# Altium integrated library Linear Technology PMIC-Switching Reg LTC1174-LTC3901.IntLib: 2647 symbols (part 295 of 310)
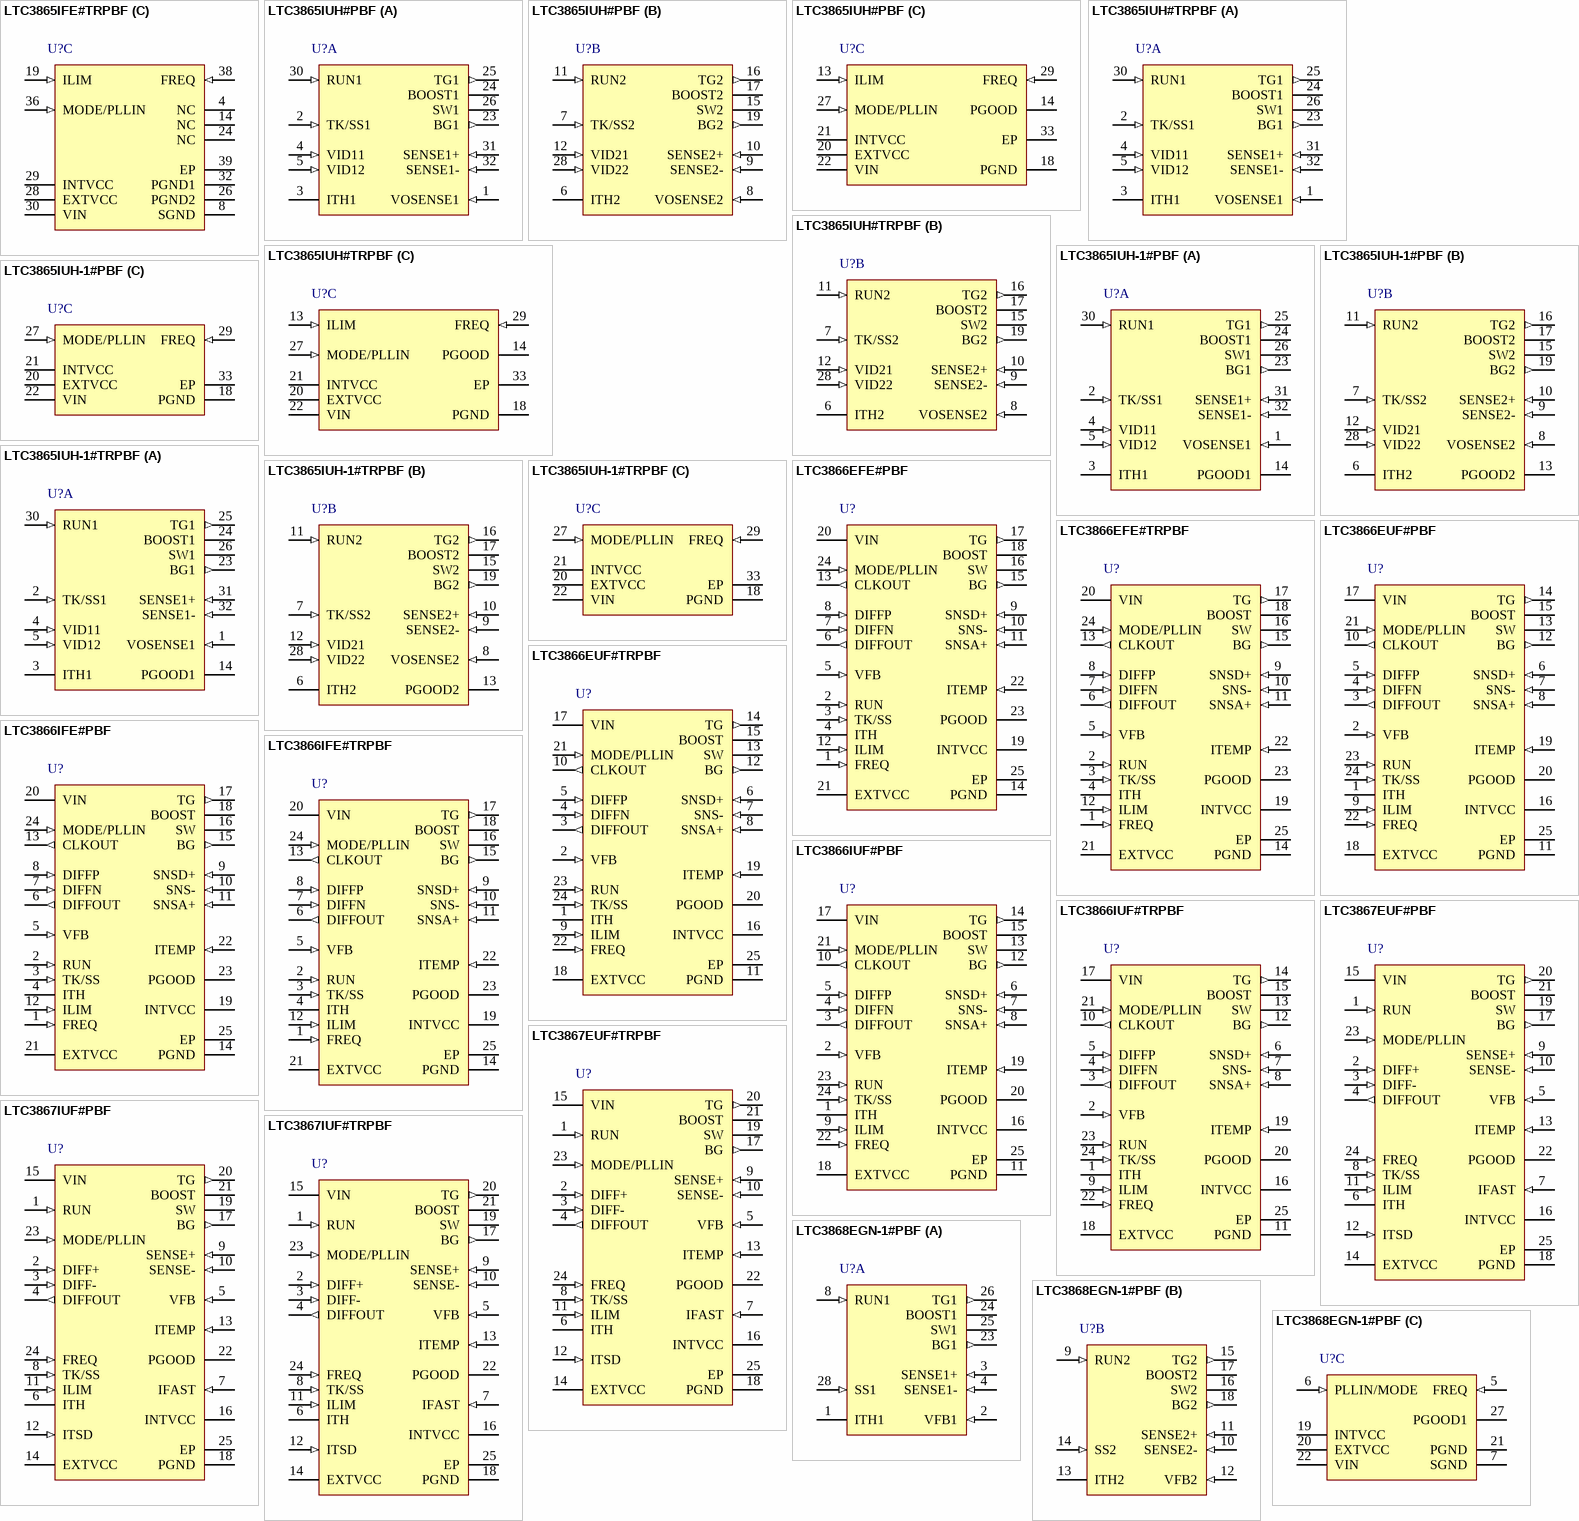
[diagram p295: symbols LTC3865IFE#TRPBF to LTC3868EGN-1#PBF]

## LTC3865IUH-1#PBF
designator U?
Dual, 2-Phase Synchronous DC/DC Controller with Pin Selectable Output, Two PGOOD Outputs and No Adjustable Current Limit, 32-pin QFN (UH-32), -40 to 125 degC, Pb-Free; Manufacturer: Linear Technology; PartNumber: LTC3865IUH-1#PBF; Number of Outputs: 2; PackageReference: UH-32; PackageDescription: 32-Pin Plastic QFN, Body 5 x 5 mm, Pitch 0.5 mm; Supplier 1: Digi-Key; Supplier Part Number 1: LTC3865IUH-1#PBF-ND; RoHS: TRUE; Code_JEDEC: MO-220
footprint LT-UH-32_N (QFN, 32-Leads, Body 5.1x5.1mm, Pitch 0.5mm, Thermal Pad 3.45X3.45mm, IPC Medium Density)
footprint LT-UH-32_L (QFN, 32-Leads, Body 5.1x5.1mm, Pitch 0.5mm, Thermal Pad 3.45X3.45mm, IPC High Density)
footprint LT-UH-32_M (QFN, 32-Leads, Body 5.1x5.1mm, Pitch 0.5mm, Thermal Pad 3.45X3.45mm, IPC Low Density)
part A pins: 1 VOSENSE1 (in) "When the internal programmable resistive divider is used, these pins must be connected to their corresponding outputs. When an external resistive divider is used, these pins are used for error amplifier feedback inputs. They (See Datasheet)", 2 TK/SS1 (in), 3 ITH1 "Current Control Thresholds and Error Amplifier Compensation Points. Each associated channels?current comparator tripping threshold increases with its ITH control voltage.", 4 VID11 (in) "VID Inputs for Output Voltage Programming. Tie these pins to INTVCC, GND or leave them floating to set the output voltages.", 5 VID12 (in) "VID Inputs for Output Voltage Programming. Tie these pins to INTVCC, GND or leave them floating to set the output voltages.", 14 PGOOD1 (oc) "Separate Power Good Indicator Outputs for LTC3865-1 in QFN package and LTC3865 in FE package. Open-drain logic output that is pulled to ground when the corresponding channel output exceeds +/-10% regulation window, after the (See Datasheet)", 23 BG1 (out) "Bottom Gate Driver Outputs. These pins drive the gates of the bottom N-channel MOSFETs between PGND and INTVCC.", 24 BOOST1 "Boosted Floating Driver Supplies. The (+) terminal of the booststrap capacitors connect to these pins. These pins swing from a diode voltage drop below INTVCC up to VIN + INTVCC.", 25 TG1 (out) "Top Gate Driver Outputs. These are the outputs of floating drivers with a voltage swing equal to INTVCC superimposed on the switch nodes voltages.", 26 SW1 "Switch Node Connections to Inductors. Voltage swing at these pins is from a Schottky diode (external) voltage drop below ground to VIN.", 30 RUN1 (in) "Run Control Inputs. A voltage above 1.22V on either pin turns on the IC. However, forcing either of these pins below 1.22V causes the IC to shut down the circuitry required for that particular channel. There are 1uA pull-up (See Datasheet)", 31 SENSE1+ (in) "Current Sense Comparator Inputs. The (+) inputs to the current comparators are normally connected to DCR sensing networks or current sensing resistors.", 32 SENSE1- (in) "Current Sense Comparator Inputs. The (-) inputs to the current comparators are connected to the outputs."
part B pins: 6 ITH2 "Current Control Thresholds and Error Amplifier Compensation Points. Each associated channels?current comparator tripping threshold increases with its ITH control voltage.", 7 TK/SS2 (in), 8 VOSENSE2 (in) "When the internal programmable resistive divider is used, these pins must be connected to their corresponding outputs. When an external resistive divider is used, these pins are used for error amplifier feedback inputs. They (See Datasheet)", 9 SENSE2- (in) "Current Sense Comparator Inputs. The (-) inputs to the current comparators are connected to the outputs.", 10 SENSE2+ (in) "Current Sense Comparator Inputs. The (+) inputs to the current comparators are normally connected to DCR sensing networks or current sensing resistors.", 11 RUN2 (in) "Run Control Inputs. A voltage above 1.22V on either pin turns on the IC. However, forcing either of these pins below 1.22V causes the IC to shut down the circuitry required for that particular channel. There are 1uA pull-up (See Datasheet)", 12 VID21 (in) "VID Inputs for Output Voltage Programming. Tie these pins to INTVCC, GND or leave them floating to set the output voltages.", 13 PGOOD2 (oc) "Separate Power Good Indicator Outputs for LTC3865-1 in QFN package and LTC3865 in FE package. Open-drain logic output that is pulled to ground when the corresponding channel output exceeds +/-10% regulation window, after the (See Datasheet)", 15 SW2 "Switch Node Connections to Inductors. Voltage swing at these pins is from a Schottky diode (external) voltage drop below ground to VIN.", 16 TG2 (out) "Top Gate Driver Outputs. These are the outputs of floating drivers with a voltage swing equal to INTVCC superimposed on the switch nodes voltages.", 17 BOOST2 "Boosted Floating Driver Supplies. The (+) terminal of the booststrap capacitors connect to these pins. These pins swing from a diode voltage drop below INTVCC up to VIN + INTVCC.", 19 BG2 (out) "Bottom Gate Driver Outputs. These pins drive the gates of the bottom N-channel MOSFETs between PGND and INTVCC.", 28 VID22 (in) "VID Inputs for Output Voltage Programming. Tie these pins to INTVCC, GND or leave them floating to set the output voltages."
part C pins: 18 PGND (power) "Power Ground Pin. Connect this pin closely to the sources of the bottom N-channel MOSFETs, the (-) terminal of CVCC and the (-) terminal of CIN.", 20 EXTVCC (power) "External Power Input to an Internal Switch Connected to INTVCC. This switch closes and supplies the IC power, bypassing the internal low dropout regulator, whenever EXTVCC is higher than 4.7V. Do not exceed 6V on this pin.", 21 INTVCC (power) "Internal 5V Regulator Output. The control circuits are powered from this voltage. Decouple this pin to PGND with a minimum of 4.7uF low ESR tantalum or ceramic capacitor.", 22 VIN (power) "Main Input Supply. Decouple this pin to PGND with a capacitor (0.1uF to 1uF).", 27 MODE/PLLIN (in), 29 FREQ (in) "This pin sets the frequency of the internal oscillator. A constant current of 7.5uA is flowing out of this pin and a resistor connected to this pin sets its DC voltage, which in turn, sets the frequency of the internal (See Datasheet)", 33 EP (power) "Pin 33 is the Exposed Pad and available for QFN package."

## LTC3865IUH-1#TRPBF
designator U?
Dual, 2-Phase Synchronous DC/DC Controller with Pin Selectable Output, Two PGOOD Outputs and No Adjustable Current Limit, 32-pin QFN (UH-32), -40 to 125 degC, Pb-Free, Tape and Reel; Manufacturer: Linear Technology; PartNumber: LTC3865IUH-1#TRPBF; Number of Outputs: 2; PackageReference: UH-32; PackageDescription: 32-Pin Plastic QFN, Body 5 x 5 mm, Pitch 0.5 mm; Supplier 1: Digi-Key; Supplier Part Number 1: LTC3865IUH-1#TRPBF-ND; RoHS: TRUE; Code_JEDEC: MO-220
footprint LT-UH-32_N (QFN, 32-Leads, Body 5.1x5.1mm, Pitch 0.5mm, Thermal Pad 3.45X3.45mm, IPC Medium Density)
footprint LT-UH-32_L (QFN, 32-Leads, Body 5.1x5.1mm, Pitch 0.5mm, Thermal Pad 3.45X3.45mm, IPC High Density)
footprint LT-UH-32_M (QFN, 32-Leads, Body 5.1x5.1mm, Pitch 0.5mm, Thermal Pad 3.45X3.45mm, IPC Low Density)
part A pins: 1 VOSENSE1 (in) "When the internal programmable resistive divider is used, these pins must be connected to their corresponding outputs. When an external resistive divider is used, these pins are used for error amplifier feedback inputs. They (See Datasheet)", 2 TK/SS1 (in), 3 ITH1 "Current Control Thresholds and Error Amplifier Compensation Points. Each associated channels?current comparator tripping threshold increases with its ITH control voltage.", 4 VID11 (in) "VID Inputs for Output Voltage Programming. Tie these pins to INTVCC, GND or leave them floating to set the output voltages.", 5 VID12 (in) "VID Inputs for Output Voltage Programming. Tie these pins to INTVCC, GND or leave them floating to set the output voltages.", 14 PGOOD1 (oc) "Separate Power Good Indicator Outputs for LTC3865-1 in QFN package and LTC3865 in FE package. Open-drain logic output that is pulled to ground when the corresponding channel output exceeds +/-10% regulation window, after the (See Datasheet)", 23 BG1 (out) "Bottom Gate Driver Outputs. These pins drive the gates of the bottom N-channel MOSFETs between PGND and INTVCC.", 24 BOOST1 "Boosted Floating Driver Supplies. The (+) terminal of the booststrap capacitors connect to these pins. These pins swing from a diode voltage drop below INTVCC up to VIN + INTVCC.", 25 TG1 (out) "Top Gate Driver Outputs. These are the outputs of floating drivers with a voltage swing equal to INTVCC superimposed on the switch nodes voltages.", 26 SW1 "Switch Node Connections to Inductors. Voltage swing at these pins is from a Schottky diode (external) voltage drop below ground to VIN.", 30 RUN1 (in) "Run Control Inputs. A voltage above 1.22V on either pin turns on the IC. However, forcing either of these pins below 1.22V causes the IC to shut down the circuitry required for that particular channel. There are 1uA pull-up (See Datasheet)", 31 SENSE1+ (in) "Current Sense Comparator Inputs. The (+) inputs to the current comparators are normally connected to DCR sensing networks or current sensing resistors.", 32 SENSE1- (in) "Current Sense Comparator Inputs. The (-) inputs to the current comparators are connected to the outputs."
part B pins: 6 ITH2 "Current Control Thresholds and Error Amplifier Compensation Points. Each associated channels?current comparator tripping threshold increases with its ITH control voltage.", 7 TK/SS2 (in), 8 VOSENSE2 (in) "When the internal programmable resistive divider is used, these pins must be connected to their corresponding outputs. When an external resistive divider is used, these pins are used for error amplifier feedback inputs. They (See Datasheet)", 9 SENSE2- (in) "Current Sense Comparator Inputs. The (-) inputs to the current comparators are connected to the outputs.", 10 SENSE2+ (in) "Current Sense Comparator Inputs. The (+) inputs to the current comparators are normally connected to DCR sensing networks or current sensing resistors.", 11 RUN2 (in) "Run Control Inputs. A voltage above 1.22V on either pin turns on the IC. However, forcing either of these pins below 1.22V causes the IC to shut down the circuitry required for that particular channel. There are 1uA pull-up (See Datasheet)", 12 VID21 (in) "VID Inputs for Output Voltage Programming. Tie these pins to INTVCC, GND or leave them floating to set the output voltages.", 13 PGOOD2 (oc) "Separate Power Good Indicator Outputs for LTC3865-1 in QFN package and LTC3865 in FE package. Open-drain logic output that is pulled to ground when the corresponding channel output exceeds +/-10% regulation window, after the (See Datasheet)", 15 SW2 "Switch Node Connections to Inductors. Voltage swing at these pins is from a Schottky diode (external) voltage drop below ground to VIN.", 16 TG2 (out) "Top Gate Driver Outputs. These are the outputs of floating drivers with a voltage swing equal to INTVCC superimposed on the switch nodes voltages.", 17 BOOST2 "Boosted Floating Driver Supplies. The (+) terminal of the booststrap capacitors connect to these pins. These pins swing from a diode voltage drop below INTVCC up to VIN + INTVCC.", 19 BG2 (out) "Bottom Gate Driver Outputs. These pins drive the gates of the bottom N-channel MOSFETs between PGND and INTVCC.", 28 VID22 (in) "VID Inputs for Output Voltage Programming. Tie these pins to INTVCC, GND or leave them floating to set the output voltages."
part C pins: 18 PGND (power) "Power Ground Pin. Connect this pin closely to the sources of the bottom N-channel MOSFETs, the (-) terminal of CVCC and the (-) terminal of CIN.", 20 EXTVCC (power) "External Power Input to an Internal Switch Connected to INTVCC. This switch closes and supplies the IC power, bypassing the internal low dropout regulator, whenever EXTVCC is higher than 4.7V. Do not exceed 6V on this pin.", 21 INTVCC (power) "Internal 5V Regulator Output. The control circuits are powered from this voltage. Decouple this pin to PGND with a minimum of 4.7uF low ESR tantalum or ceramic capacitor.", 22 VIN (power) "Main Input Supply. Decouple this pin to PGND with a capacitor (0.1uF to 1uF).", 27 MODE/PLLIN (in), 29 FREQ (in) "This pin sets the frequency of the internal oscillator. A constant current of 7.5uA is flowing out of this pin and a resistor connected to this pin sets its DC voltage, which in turn, sets the frequency of the internal (See Datasheet)", 33 EP (power) "Pin 33 is the Exposed Pad and available for QFN package."

## LTC3866EFE#PBF
designator U?
Current Mode Synchronous Controller for Sub Milliohm DCR Sensing, 24-pin SOP (FE-24-EPV-AA), -40 to 125 degC, Pb-Free; Manufacturer: Linear Technology; PartNumber: LTC3866EFE#PBF; Number of Outputs: 1; PackageReference: FE-24; PackageDescription: 24-Pin Plastic TSSOP, Body 7.8 x 4.4 mm, Pitch 0.65 mm; Supplier 1: Digi-Key; Supplier Part Number 1: LTC3866EFE#PBF-ND; RoHS: TRUE
footprint LT-FE-24-EPV-AA_N (SOP, 24-Leads, Body 7.9x4.5mm, Pitch 0.65mm, Thermal Pad 2.74x3.25mm, IPC Medium Density)
footprint LT-FE-24-EPV-AA_L (SOP, 24-Leads, Body 7.9x4.5mm, Pitch 0.65mm, Thermal Pad 2.74x3.25mm, IPC High Density)
footprint LT-FE-24-EPV-AA_M (SOP, 24-Leads, Body 7.9x4.5mm, Pitch 0.65mm, Thermal Pad 2.74x3.25mm, IPC Low Density)
pins: 1 FREQ (in) "Oscillator Frequency Control Input. A 10uA current source flows out of this pin. Connecting a resistor between this pin and ground sets a DC voltage which in turn programs the oscillator frequency. Alternatively, this pin (See Datasheet)", 2 RUN (in) "Run Control Input. A voltage above 1.22V turns on the IC. Pulling this pin below 1.14V causes M198 the IC to shut down. There is a 1uA pull-up current for the pin. Once the RUN pin rises above 1.22V, an additional 4.5uA (See Datasheet)", 3 TK/SS (in) "Output Voltage Tracking and Soft-Start Input. An internal soft-start current of 1.25uA charges the external soft-start capacitor connected to this pin.", 4 ITH "Current Control Threshold and Error Amplifier Compensation Pin. The current comparator tripping threshold is proportional with this voltage.", 5 VFB (in) "Error Amplifier Feedback Input. This pin receives the remotely sensed feedback voltage to set the output voltage through an external resistive divider connected to the DIFFOUT pin or the output.", 6 DIFFOUT (out) "Output of Remote Sensing Differential Amplifier. Connect this pin to VFB through a resistive divider to set the desired output voltage.", 7 DIFFN (in) "Negative Input of Remote Sensing Differential Amplifier. Connect this pin close to the ground of the output load.", 8 DIFFP (in) "Positive Input of Remote Sensing Differential Amplifier. Connect this pin close to the output load.", 9 SNSD+ (in) "First Positive Current Sense Input. This pin is connected to sense the signal of the output inductor’s DCR, it is to be used with a filter that matches the bandwidth, L/DCR, of the inductor.", 10 SNS- (in) "Negative Current Sense Input. This negative input of the current comparator is to be connected to the output.", 11 SNSA+ (in) "Second Positive Current Sense Input. This input is to be connected to sense the signal of the output’s inductor DCR with a filter bandwidth of five times larger than L/DCR.", 12 ILIM (in) "Current Comparator Sense Voltage Limit. Apply a DC voltage to set the maximum current sense threshold for the current comparator.", 13 CLKOUT (out) "Clock Output Pin. The CLKOUT signal is 180degrees out of phase to the rising edge of the IC internal clock.", 14 PGND (power) "Power Ground. Connect to the source of the bottom N-channel MOSFET and the negative terminals of the VIN and INTVCC decoupling capacitors close to this pin.", 15 BG (out) "Bottom Gate Driver Output. This pin drives the gate of the bottom N-channel MOSFET and swings between INTVCC or EXTVCC and PGND.", 16 SW "Switch Node Connection. Connect this pin to the output filter inductor, bottom N-channel MOSFET drain and top N-channel MOSFET source. Voltage swing at these pins is from a Schottky diode (external) voltage drop below ground (See Datasheet)", 17 TG (out) "Top Gate Driver Output. This is a floating driver to be connected to the gate of the top N-channel MOSFET. The voltage swing of this pin equals to INTVCC superimposed over the switch node (SW) voltage.", 18 BOOST "Boosted Top Gate Driver Supply. The (+) terminal of the booststrap capacitor connects to this pin. This pins swings from a diode voltage drop below INTVCC up to VIN + INTVCC.", 19 INTVCC (power) "Internal 5.5V Regulator Output. The internal control circuits are powered from this voltage. Decouple this pin to PGND with a 4.7uF low ESR tantalum or ceramic capacitor.", 20 VIN (power) "Main Input Supply. Decouple this pin to PGND with a capacitor (0.1uF to 1uF). For applications where the main input power is 5V, tie the VIN and INTVCC pins together.", 21 EXTVCC (power) "External Supply Voltage Input. Whenever an external voltage supply greater than 4.7V is connected to this pin, an internal switch will close and bypass the internal low dropout regulator, and the external supply will power (See Datasheet)", 22 ITEMP (in) "Temperature DCR Compensation Input. Connect to a NTC (negative tempco) resistor placed near the output inductor to compensate for its DCR change over temperature. Floating this pin or tying it to INTVCC disables the DCR (See Datasheet)", 23 PGOOD (oc) "Power Good Indicator Output. Open-drain logic out that is pulled to ground when the output exceeds the 10% regulation window, after the internal 20us power bad mask timer expires.", 24 MODE/PLLIN (in) "Mode Operation or External Clock Synchronization. Connect this pin to SGND to set the continuous mode of operation. Connect to INTVCC to enable pulse-skipping mode of operation. Leaving the pin floating will enable Burst (See Datasheet)", 25 EP (power) "Signal Ground. This is the ground of the controller. Connect compensation components and output setting resistors to this ground. The exposed pad must be soldered to the PCB ground plane."

## LTC3866EFE#TRPBF
designator U?
Current Mode Synchronous Controller for Sub Milliohm DCR Sensing, 24-pin SOP (FE-24-EPV-AA), -40 to 125 degC, Pb-Free, Tape and Reel; Manufacturer: Linear Technology; PartNumber: LTC3866EFE#TRPBF; Number of Outputs: 1; PackageReference: FE-24; PackageDescription: 24-Pin Plastic TSSOP, Body 7.8 x 4.4 mm, Pitch 0.65 mm; Supplier 1: Digi-Key; Supplier Part Number 1: LTC3866EFE#TRPBF-ND; RoHS: TRUE
footprint LT-FE-24-EPV-AA_N (SOP, 24-Leads, Body 7.9x4.5mm, Pitch 0.65mm, Thermal Pad 2.74x3.25mm, IPC Medium Density)
footprint LT-FE-24-EPV-AA_L (SOP, 24-Leads, Body 7.9x4.5mm, Pitch 0.65mm, Thermal Pad 2.74x3.25mm, IPC High Density)
footprint LT-FE-24-EPV-AA_M (SOP, 24-Leads, Body 7.9x4.5mm, Pitch 0.65mm, Thermal Pad 2.74x3.25mm, IPC Low Density)
pins: 1 FREQ (in) "Oscillator Frequency Control Input. A 10uA current source flows out of this pin. Connecting a resistor between this pin and ground sets a DC voltage which in turn programs the oscillator frequency. Alternatively, this pin (See Datasheet)", 2 RUN (in) "Run Control Input. A voltage above 1.22V turns on the IC. Pulling this pin below 1.14V causes M198 the IC to shut down. There is a 1uA pull-up current for the pin. Once the RUN pin rises above 1.22V, an additional 4.5uA (See Datasheet)", 3 TK/SS (in) "Output Voltage Tracking and Soft-Start Input. An internal soft-start current of 1.25uA charges the external soft-start capacitor connected to this pin.", 4 ITH "Current Control Threshold and Error Amplifier Compensation Pin. The current comparator tripping threshold is proportional with this voltage.", 5 VFB (in) "Error Amplifier Feedback Input. This pin receives the remotely sensed feedback voltage to set the output voltage through an external resistive divider connected to the DIFFOUT pin or the output.", 6 DIFFOUT (out) "Output of Remote Sensing Differential Amplifier. Connect this pin to VFB through a resistive divider to set the desired output voltage.", 7 DIFFN (in) "Negative Input of Remote Sensing Differential Amplifier. Connect this pin close to the ground of the output load.", 8 DIFFP (in) "Positive Input of Remote Sensing Differential Amplifier. Connect this pin close to the output load.", 9 SNSD+ (in) "First Positive Current Sense Input. This pin is connected to sense the signal of the output inductor’s DCR, it is to be used with a filter that matches the bandwidth, L/DCR, of the inductor.", 10 SNS- (in) "Negative Current Sense Input. This negative input of the current comparator is to be connected to the output.", 11 SNSA+ (in) "Second Positive Current Sense Input. This input is to be connected to sense the signal of the output’s inductor DCR with a filter bandwidth of five times larger than L/DCR.", 12 ILIM (in) "Current Comparator Sense Voltage Limit. Apply a DC voltage to set the maximum current sense threshold for the current comparator.", 13 CLKOUT (out) "Clock Output Pin. The CLKOUT signal is 180degrees out of phase to the rising edge of the IC internal clock.", 14 PGND (power) "Power Ground. Connect to the source of the bottom N-channel MOSFET and the negative terminals of the VIN and INTVCC decoupling capacitors close to this pin.", 15 BG (out) "Bottom Gate Driver Output. This pin drives the gate of the bottom N-channel MOSFET and swings between INTVCC or EXTVCC and PGND.", 16 SW "Switch Node Connection. Connect this pin to the output filter inductor, bottom N-channel MOSFET drain and top N-channel MOSFET source. Voltage swing at these pins is from a Schottky diode (external) voltage drop below ground (See Datasheet)", 17 TG (out) "Top Gate Driver Output. This is a floating driver to be connected to the gate of the top N-channel MOSFET. The voltage swing of this pin equals to INTVCC superimposed over the switch node (SW) voltage.", 18 BOOST "Boosted Top Gate Driver Supply. The (+) terminal of the booststrap capacitor connects to this pin. This pins swings from a diode voltage drop below INTVCC up to VIN + INTVCC.", 19 INTVCC (power) "Internal 5.5V Regulator Output. The internal control circuits are powered from this voltage. Decouple this pin to PGND with a 4.7uF low ESR tantalum or ceramic capacitor.", 20 VIN (power) "Main Input Supply. Decouple this pin to PGND with a capacitor (0.1uF to 1uF). For applications where the main input power is 5V, tie the VIN and INTVCC pins together.", 21 EXTVCC (power) "External Supply Voltage Input. Whenever an external voltage supply greater than 4.7V is connected to this pin, an internal switch will close and bypass the internal low dropout regulator, and the external supply will power (See Datasheet)", 22 ITEMP (in) "Temperature DCR Compensation Input. Connect to a NTC (negative tempco) resistor placed near the output inductor to compensate for its DCR change over temperature. Floating this pin or tying it to INTVCC disables the DCR (See Datasheet)", 23 PGOOD (oc) "Power Good Indicator Output. Open-drain logic out that is pulled to ground when the output exceeds the 10% regulation window, after the internal 20us power bad mask timer expires.", 24 MODE/PLLIN (in) "Mode Operation or External Clock Synchronization. Connect this pin to SGND to set the continuous mode of operation. Connect to INTVCC to enable pulse-skipping mode of operation. Leaving the pin floating will enable Burst (See Datasheet)", 25 EP (power) "Signal Ground. This is the ground of the controller. Connect compensation components and output setting resistors to this ground. The exposed pad must be soldered to the PCB ground plane."

## LTC3866EUF#PBF
designator U?
Current Mode Synchronous Controller for Sub Milliohm DCR Sensing, 24-pin QFN (UF-24), -40 to 125 degC, Pb-Free; Manufacturer: Linear Technology; PartNumber: LTC3866EUF#PBF; Number of Outputs: 1; PackageReference: UF24; PackageDescription: 24-Pin Plastic QFN, Body 4 x 4 mm, Pitch 0.5 mm; Supplier 1: Digi-Key; Supplier Part Number 1: LTC3866EUF#PBF-ND; RoHS: TRUE; Code_JEDEC: MO-220
footprint LT-UF-24_N (QFN, 24-Leads, Body 4.1x4.1mm, Pitch 0.5mm, Thermal Pad 2.45x2.45mm, IPC Medium Density)
footprint LT-UF-24_L (QFN, 24-Leads, Body 4.1x4.1mm, Pitch 0.5mm, Thermal Pad 2.45x2.45mm, IPC High Density)
footprint LT-UF-24_M (QFN, 24-Leads, Body 4.1x4.1mm, Pitch 0.5mm, Thermal Pad 2.45x2.45mm, IPC Low Density)
pins: 1 ITH "Current Control Threshold and Error Amplifier Compensation Pin. The current comparator tripping threshold is proportional with this voltage", 2 VFB (in) "Error Amplifier Feedback Input. This pin receives the remotely sensed feedback voltage to set the output voltage through an external resistive divider connected to the DIFFOUT pin or the output.", 3 DIFFOUT (out) "Output of Remote Sensing Differential Amplifier. Connect this pin to VFB through a resistive divider to set the desired output voltage.", 4 DIFFN (in) "Negative Input of Remote Sensing Differential Amplifier. Connect this pin close to the ground of the output load.", 5 DIFFP (in) "Positive Input of Remote Sensing Differential Amplifier. Connect this pin close to the output load.", 6 SNSD+ (in) "First Positive Current Sense Input. This pin is connected to sense the signal of the output inductor¡¯s DCR, it is to be used with a filter that matches the bandwidth, L/DCR, of the inductor.", 7 SNS- (in) "Negative Current Sense Input. This negative input of the current comparator is to be connected to the output.", 8 SNSA+ (in) "Second Positive Current Sense Input. This input is to be connected to sense the signal of the output¡¯s inductor DCR with a filter bandwidth of five times larger than L/DCR.", 9 ILIM (in) "Current Comparator Sense Voltage Limit. Apply a DC voltage to set the maximum current sense threshold for the current comparator", 10 CLKOUT (out) "Clock Output Pin. The CLKOUT signal is 180degrees out of phase to the rising edge of the IC internal clock.", 11 PGND (power) "Power Ground. Connect to the source of the bottom N-channel MOSFET and the negative terminals of the VIN and INTVCC decoupling capacitors close to this pin.", 12 BG (out) "Bottom Gate Driver Output. This pin drives the gate of the bottom N-channel MOSFET and swings between INTVCC or EXTVCC and PGND.", 13 SW "Switch Node Connection. Connect this pin to the output filter inductor, bottom N-channel MOSFET drain and top N-channel MOSFET source. Voltage swing at these pins is from a Schottky diode (external) voltage drop below ground (See Datasheet)", 14 TG (out) "Top Gate Driver Output. This is a floating driver to be connected to the gate of the top N-channel MOSFET. The voltage swing of this pin equals to INTVCC superimposed over the switch node (SW) voltage.", 15 BOOST "Boosted Top Gate Driver Supply. The (+) terminal of the booststrap capacitor connects to this pin. This pins swings from a diode voltage drop below INTVCC up to VIN + INTVCC.", 16 INTVCC (power) "Internal 5.5V Regulator Output. The internal control circuits are powered from this voltage. Decouple this pin to PGND with a 4.7uF low ESR tantalum or ceramic capacitor.", 17 VIN (power) "Main Input Supply. Decouple this pin to PGND with a capacitor (0.1uF to 1uF). For applications where the main input power is 5V, tie the VIN and INTVCC pins together.", 18 EXTVCC (power) "External Supply Voltage Input. Whenever an external voltage supply greater than 4.7V is connected to this pin, an internal switch will close and bypass the internal low dropout regulator, and the external supply will power (See Datasheet)", 19 ITEMP (in) "Temperature DCR Compensation Input. Connect to a NTC (negative tempco) resistor placed near the output inductor to compensate for its DCR change over temperature. Floating this pin or tying it to INTVCC disables the DCR (See Datasheet)", 20 PGOOD (oc) "Power Good Indicator Output. Open-drain logic out that is pulled to ground when the output exceeds the 10% regulation window, after the internal 20us power bad mask timer expires", 21 MODE/PLLIN (in) "Mode Operation or External Clock Synchronization. Connect this pin to SGND to set the continuous mode of operation. Connect to INTVCC to enable pulse-skipping mode of operation. Leaving the pin floating will enable Burst (See Datasheet)", 22 FREQ (in) "Oscillator Frequency Control Input. A 10uA current source flows out of this pin. Connecting a resistor between this pin and ground sets a DC voltage which in turn programs the oscillator frequency. Alternatively, this pin (See Datasheet)", 23 RUN (in) "Run Control Input. A voltage above 1.22V turns on the IC. Pulling this pin below 1.14V causes the IC to shut down. There is a 1uA pull-up current for the pin. Once the RUN pin rises above 1.22V, an additional 4.5uA pull-up (See Datasheet)", 24 TK/SS (in) "Output Voltage Tracking and Soft-Start Input. An internal soft-start current of 1.25uA charges the external soft-start capacitor connected to this pin.", 25 EP (power) "Signal Ground. This is the ground of the controller. Connect compensation components and output setting resistors to this ground. The exposed pad must be soldered to the PCB ground plane."

## LTC3866EUF#TRPBF
designator U?
Current Mode Synchronous Controller for Sub Milliohm DCR Sensing, 24-pin QFN (UF-24), -40 to 125 degC, Pb-Free, Tape and Reel; Manufacturer: Linear Technology; PartNumber: LTC3866EUF#TRPBF; Number of Outputs: 1; PackageReference: UF24; PackageDescription: 24-Pin Plastic QFN, Body 4 x 4 mm, Pitch 0.5 mm; Supplier 1: Digi-Key; Supplier Part Number 1: LTC3866EUF#TRPBF-ND; RoHS: TRUE; Code_JEDEC: MO-220
footprint LT-UF-24_N (QFN, 24-Leads, Body 4.1x4.1mm, Pitch 0.5mm, Thermal Pad 2.45x2.45mm, IPC Medium Density)
footprint LT-UF-24_L (QFN, 24-Leads, Body 4.1x4.1mm, Pitch 0.5mm, Thermal Pad 2.45x2.45mm, IPC High Density)
footprint LT-UF-24_M (QFN, 24-Leads, Body 4.1x4.1mm, Pitch 0.5mm, Thermal Pad 2.45x2.45mm, IPC Low Density)
pins: 1 ITH "Current Control Threshold and Error Amplifier Compensation Pin. The current comparator tripping threshold is proportional with this voltage", 2 VFB (in) "Error Amplifier Feedback Input. This pin receives the remotely sensed feedback voltage to set the output voltage through an external resistive divider connected to the DIFFOUT pin or the output.", 3 DIFFOUT (out) "Output of Remote Sensing Differential Amplifier. Connect this pin to VFB through a resistive divider to set the desired output voltage.", 4 DIFFN (in) "Negative Input of Remote Sensing Differential Amplifier. Connect this pin close to the ground of the output load.", 5 DIFFP (in) "Positive Input of Remote Sensing Differential Amplifier. Connect this pin close to the output load.", 6 SNSD+ (in) "First Positive Current Sense Input. This pin is connected to sense the signal of the output inductor¡¯s DCR, it is to be used with a filter that matches the bandwidth, L/DCR, of the inductor.", 7 SNS- (in) "Negative Current Sense Input. This negative input of the current comparator is to be connected to the output.", 8 SNSA+ (in) "Second Positive Current Sense Input. This input is to be connected to sense the signal of the output¡¯s inductor DCR with a filter bandwidth of five times larger than L/DCR.", 9 ILIM (in) "Current Comparator Sense Voltage Limit. Apply a DC voltage to set the maximum current sense threshold for the current comparator", 10 CLKOUT (out) "Clock Output Pin. The CLKOUT signal is 180degrees out of phase to the rising edge of the IC internal clock.", 11 PGND (power) "Power Ground. Connect to the source of the bottom N-channel MOSFET and the negative terminals of the VIN and INTVCC decoupling capacitors close to this pin.", 12 BG (out) "Bottom Gate Driver Output. This pin drives the gate of the bottom N-channel MOSFET and swings between INTVCC or EXTVCC and PGND.", 13 SW "Switch Node Connection. Connect this pin to the output filter inductor, bottom N-channel MOSFET drain and top N-channel MOSFET source. Voltage swing at these pins is from a Schottky diode (external) voltage drop below ground (See Datasheet)", 14 TG (out) "Top Gate Driver Output. This is a floating driver to be connected to the gate of the top N-channel MOSFET. The voltage swing of this pin equals to INTVCC superimposed over the switch node (SW) voltage.", 15 BOOST "Boosted Top Gate Driver Supply. The (+) terminal of the booststrap capacitor connects to this pin. This pins swings from a diode voltage drop below INTVCC up to VIN + INTVCC.", 16 INTVCC (power) "Internal 5.5V Regulator Output. The internal control circuits are powered from this voltage. Decouple this pin to PGND with a 4.7uF low ESR tantalum or ceramic capacitor.", 17 VIN (power) "Main Input Supply. Decouple this pin to PGND with a capacitor (0.1uF to 1uF). For applications where the main input power is 5V, tie the VIN and INTVCC pins together.", 18 EXTVCC (power) "External Supply Voltage Input. Whenever an external voltage supply greater than 4.7V is connected to this pin, an internal switch will close and bypass the internal low dropout regulator, and the external supply will power (See Datasheet)", 19 ITEMP (in) "Temperature DCR Compensation Input. Connect to a NTC (negative tempco) resistor placed near the output inductor to compensate for its DCR change over temperature. Floating this pin or tying it to INTVCC disables the DCR (See Datasheet)", 20 PGOOD (oc) "Power Good Indicator Output. Open-drain logic out that is pulled to ground when the output exceeds the 10% regulation window, after the internal 20us power bad mask timer expires", 21 MODE/PLLIN (in) "Mode Operation or External Clock Synchronization. Connect this pin to SGND to set the continuous mode of operation. Connect to INTVCC to enable pulse-skipping mode of operation. Leaving the pin floating will enable Burst (See Datasheet)", 22 FREQ (in) "Oscillator Frequency Control Input. A 10uA current source flows out of this pin. Connecting a resistor between this pin and ground sets a DC voltage which in turn programs the oscillator frequency. Alternatively, this pin (See Datasheet)", 23 RUN (in) "Run Control Input. A voltage above 1.22V turns on the IC. Pulling this pin below 1.14V causes the IC to shut down. There is a 1uA pull-up current for the pin. Once the RUN pin rises above 1.22V, an additional 4.5uA pull-up (See Datasheet)", 24 TK/SS (in) "Output Voltage Tracking and Soft-Start Input. An internal soft-start current of 1.25uA charges the external soft-start capacitor connected to this pin.", 25 EP (power) "Signal Ground. This is the ground of the controller. Connect compensation components and output setting resistors to this ground. The exposed pad must be soldered to the PCB ground plane."

## LTC3866IFE#PBF
designator U?
Current Mode Synchronous Controller for Sub Milliohm DCR Sensing, 24-pin SOP (FE-24-EPV-AA), -40 to 125 degC, Pb-Free; Manufacturer: Linear Technology; PartNumber: LTC3866IFE#PBF; Number of Outputs: 1; PackageReference: FE-24; PackageDescription: 24-Pin Plastic TSSOP, Body 7.8 x 4.4 mm, Pitch 0.65 mm; Supplier 1: Digi-Key; Supplier Part Number 1: LTC3866IFE#PBF-ND; RoHS: TRUE
footprint LT-FE-24-EPV-AA_N (SOP, 24-Leads, Body 7.9x4.5mm, Pitch 0.65mm, Thermal Pad 2.74x3.25mm, IPC Medium Density)
footprint LT-FE-24-EPV-AA_L (SOP, 24-Leads, Body 7.9x4.5mm, Pitch 0.65mm, Thermal Pad 2.74x3.25mm, IPC High Density)
footprint LT-FE-24-EPV-AA_M (SOP, 24-Leads, Body 7.9x4.5mm, Pitch 0.65mm, Thermal Pad 2.74x3.25mm, IPC Low Density)
pins: 1 FREQ (in) "Oscillator Frequency Control Input. A 10uA current source flows out of this pin. Connecting a resistor between this pin and ground sets a DC voltage which in turn programs the oscillator frequency. Alternatively, this pin (See Datasheet)", 2 RUN (in) "Run Control Input. A voltage above 1.22V turns on the IC. Pulling this pin below 1.14V causes M198 the IC to shut down. There is a 1uA pull-up current for the pin. Once the RUN pin rises above 1.22V, an additional 4.5uA (See Datasheet)", 3 TK/SS (in) "Output Voltage Tracking and Soft-Start Input. An internal soft-start current of 1.25uA charges the external soft-start capacitor connected to this pin.", 4 ITH "Current Control Threshold and Error Amplifier Compensation Pin. The current comparator tripping threshold is proportional with this voltage.", 5 VFB (in) "Error Amplifier Feedback Input. This pin receives the remotely sensed feedback voltage to set the output voltage through an external resistive divider connected to the DIFFOUT pin or the output.", 6 DIFFOUT (out) "Output of Remote Sensing Differential Amplifier. Connect this pin to VFB through a resistive divider to set the desired output voltage.", 7 DIFFN (in) "Negative Input of Remote Sensing Differential Amplifier. Connect this pin close to the ground of the output load.", 8 DIFFP (in) "Positive Input of Remote Sensing Differential Amplifier. Connect this pin close to the output load.", 9 SNSD+ (in) "First Positive Current Sense Input. This pin is connected to sense the signal of the output inductor’s DCR, it is to be used with a filter that matches the bandwidth, L/DCR, of the inductor.", 10 SNS- (in) "Negative Current Sense Input. This negative input of the current comparator is to be connected to the output.", 11 SNSA+ (in) "Second Positive Current Sense Input. This input is to be connected to sense the signal of the output’s inductor DCR with a filter bandwidth of five times larger than L/DCR.", 12 ILIM (in) "Current Comparator Sense Voltage Limit. Apply a DC voltage to set the maximum current sense threshold for the current comparator.", 13 CLKOUT (out) "Clock Output Pin. The CLKOUT signal is 180degrees out of phase to the rising edge of the IC internal clock.", 14 PGND (power) "Power Ground. Connect to the source of the bottom N-channel MOSFET and the negative terminals of the VIN and INTVCC decoupling capacitors close to this pin.", 15 BG (out) "Bottom Gate Driver Output. This pin drives the gate of the bottom N-channel MOSFET and swings between INTVCC or EXTVCC and PGND.", 16 SW "Switch Node Connection. Connect this pin to the output filter inductor, bottom N-channel MOSFET drain and top N-channel MOSFET source. Voltage swing at these pins is from a Schottky diode (external) voltage drop below ground (See Datasheet)", 17 TG (out) "Top Gate Driver Output. This is a floating driver to be connected to the gate of the top N-channel MOSFET. The voltage swing of this pin equals to INTVCC superimposed over the switch node (SW) voltage.", 18 BOOST "Boosted Top Gate Driver Supply. The (+) terminal of the booststrap capacitor connects to this pin. This pins swings from a diode voltage drop below INTVCC up to VIN + INTVCC.", 19 INTVCC (power) "Internal 5.5V Regulator Output. The internal control circuits are powered from this voltage. Decouple this pin to PGND with a 4.7uF low ESR tantalum or ceramic capacitor.", 20 VIN (power) "Main Input Supply. Decouple this pin to PGND with a capacitor (0.1uF to 1uF). For applications where the main input power is 5V, tie the VIN and INTVCC pins together.", 21 EXTVCC (power) "External Supply Voltage Input. Whenever an external voltage supply greater than 4.7V is connected to this pin, an internal switch will close and bypass the internal low dropout regulator, and the external supply will power (See Datasheet)", 22 ITEMP (in) "Temperature DCR Compensation Input. Connect to a NTC (negative tempco) resistor placed near the output inductor to compensate for its DCR change over temperature. Floating this pin or tying it to INTVCC disables the DCR (See Datasheet)", 23 PGOOD (oc) "Power Good Indicator Output. Open-drain logic out that is pulled to ground when the output exceeds the 10% regulation window, after the internal 20us power bad mask timer expires.", 24 MODE/PLLIN (in) "Mode Operation or External Clock Synchronization. Connect this pin to SGND to set the continuous mode of operation. Connect to INTVCC to enable pulse-skipping mode of operation. Leaving the pin floating will enable Burst (See Datasheet)", 25 EP (power) "Signal Ground. This is the ground of the controller. Connect compensation components and output setting resistors to this ground. The exposed pad must be soldered to the PCB ground plane."

## LTC3866IFE#TRPBF
designator U?
Current Mode Synchronous Controller for Sub Milliohm DCR Sensing, 24-pin SOP (FE-24-EPV-AA), -40 to 125 degC, Pb-Free, Tape and Reel; Manufacturer: Linear Technology; PartNumber: LTC3866IFE#TRPBF; Number of Outputs: 1; PackageReference: FE-24; PackageDescription: 24-Pin Plastic TSSOP, Body 7.8 x 4.4 mm, Pitch 0.65 mm; Supplier 1: Digi-Key; Supplier Part Number 1: LTC3866IFE#TRPBF-ND; RoHS: TRUE
footprint LT-FE-24-EPV-AA_N (SOP, 24-Leads, Body 7.9x4.5mm, Pitch 0.65mm, Thermal Pad 2.74x3.25mm, IPC Medium Density)
footprint LT-FE-24-EPV-AA_L (SOP, 24-Leads, Body 7.9x4.5mm, Pitch 0.65mm, Thermal Pad 2.74x3.25mm, IPC High Density)
footprint LT-FE-24-EPV-AA_M (SOP, 24-Leads, Body 7.9x4.5mm, Pitch 0.65mm, Thermal Pad 2.74x3.25mm, IPC Low Density)
pins: 1 FREQ (in) "Oscillator Frequency Control Input. A 10uA current source flows out of this pin. Connecting a resistor between this pin and ground sets a DC voltage which in turn programs the oscillator frequency. Alternatively, this pin (See Datasheet)", 2 RUN (in) "Run Control Input. A voltage above 1.22V turns on the IC. Pulling this pin below 1.14V causes M198 the IC to shut down. There is a 1uA pull-up current for the pin. Once the RUN pin rises above 1.22V, an additional 4.5uA (See Datasheet)", 3 TK/SS (in) "Output Voltage Tracking and Soft-Start Input. An internal soft-start current of 1.25uA charges the external soft-start capacitor connected to this pin.", 4 ITH "Current Control Threshold and Error Amplifier Compensation Pin. The current comparator tripping threshold is proportional with this voltage.", 5 VFB (in) "Error Amplifier Feedback Input. This pin receives the remotely sensed feedback voltage to set the output voltage through an external resistive divider connected to the DIFFOUT pin or the output.", 6 DIFFOUT (out) "Output of Remote Sensing Differential Amplifier. Connect this pin to VFB through a resistive divider to set the desired output voltage.", 7 DIFFN (in) "Negative Input of Remote Sensing Differential Amplifier. Connect this pin close to the ground of the output load.", 8 DIFFP (in) "Positive Input of Remote Sensing Differential Amplifier. Connect this pin close to the output load.", 9 SNSD+ (in) "First Positive Current Sense Input. This pin is connected to sense the signal of the output inductor’s DCR, it is to be used with a filter that matches the bandwidth, L/DCR, of the inductor.", 10 SNS- (in) "Negative Current Sense Input. This negative input of the current comparator is to be connected to the output.", 11 SNSA+ (in) "Second Positive Current Sense Input. This input is to be connected to sense the signal of the output’s inductor DCR with a filter bandwidth of five times larger than L/DCR.", 12 ILIM (in) "Current Comparator Sense Voltage Limit. Apply a DC voltage to set the maximum current sense threshold for the current comparator.", 13 CLKOUT (out) "Clock Output Pin. The CLKOUT signal is 180degrees out of phase to the rising edge of the IC internal clock.", 14 PGND (power) "Power Ground. Connect to the source of the bottom N-channel MOSFET and the negative terminals of the VIN and INTVCC decoupling capacitors close to this pin.", 15 BG (out) "Bottom Gate Driver Output. This pin drives the gate of the bottom N-channel MOSFET and swings between INTVCC or EXTVCC and PGND.", 16 SW "Switch Node Connection. Connect this pin to the output filter inductor, bottom N-channel MOSFET drain and top N-channel MOSFET source. Voltage swing at these pins is from a Schottky diode (external) voltage drop below ground (See Datasheet)", 17 TG (out) "Top Gate Driver Output. This is a floating driver to be connected to the gate of the top N-channel MOSFET. The voltage swing of this pin equals to INTVCC superimposed over the switch node (SW) voltage.", 18 BOOST "Boosted Top Gate Driver Supply. The (+) terminal of the booststrap capacitor connects to this pin. This pins swings from a diode voltage drop below INTVCC up to VIN + INTVCC.", 19 INTVCC (power) "Internal 5.5V Regulator Output. The internal control circuits are powered from this voltage. Decouple this pin to PGND with a 4.7uF low ESR tantalum or ceramic capacitor.", 20 VIN (power) "Main Input Supply. Decouple this pin to PGND with a capacitor (0.1uF to 1uF). For applications where the main input power is 5V, tie the VIN and INTVCC pins together.", 21 EXTVCC (power) "External Supply Voltage Input. Whenever an external voltage supply greater than 4.7V is connected to this pin, an internal switch will close and bypass the internal low dropout regulator, and the external supply will power (See Datasheet)", 22 ITEMP (in) "Temperature DCR Compensation Input. Connect to a NTC (negative tempco) resistor placed near the output inductor to compensate for its DCR change over temperature. Floating this pin or tying it to INTVCC disables the DCR (See Datasheet)", 23 PGOOD (oc) "Power Good Indicator Output. Open-drain logic out that is pulled to ground when the output exceeds the 10% regulation window, after the internal 20us power bad mask timer expires.", 24 MODE/PLLIN (in) "Mode Operation or External Clock Synchronization. Connect this pin to SGND to set the continuous mode of operation. Connect to INTVCC to enable pulse-skipping mode of operation. Leaving the pin floating will enable Burst (See Datasheet)", 25 EP (power) "Signal Ground. This is the ground of the controller. Connect compensation components and output setting resistors to this ground. The exposed pad must be soldered to the PCB ground plane."